# EAGLE library part IC_TPIC6B595 (library untitled)
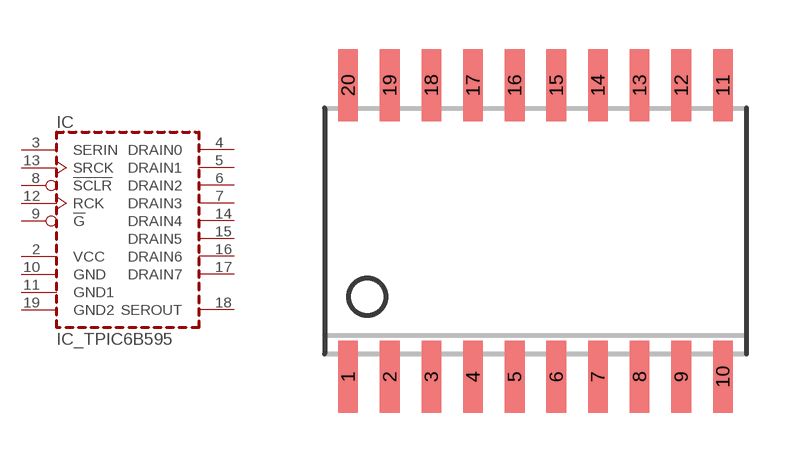
[diagram p18: symbol with the pads of SOIC-20; footprint SOIC-20]

Designator prefix IC

## IC_TPIC6B595DW  [SOIC-20]
2  VCC  pwr
3  SERIN  in
4  DRAIN0  out
5  DRAIN1  out
6  DRAIN2  out
7  DRAIN3  out
8  !SCLR  in
9  !G  in
10  GND  pwr
11  GND1  pwr
12  RCK  in
13  SRCK  in
14  DRAIN4  out
15  DRAIN5  out
16  DRAIN6  out
17  DRAIN7  out
18  SEROUT  out
19  GND2  pwr

## Footprint SOIC-20 (pad centres in mm)
smd 0.6 x 2.2: 1 -5.715,-4.445; 2 -4.445,-4.445; 3 -3.175,-4.445; 4 -1.905,-4.445; 5 -0.635,-4.445; 6 0.635,-4.445; 7 1.905,-4.445; 8 3.175,-4.445; 9 4.445,-4.445; 10 5.715,-4.445; 11 5.715,4.445; 12 4.445,4.445; 13 3.175,4.445; 14 1.905,4.445; 15 0.635,4.445; 16 -0.635,4.445; 17 -1.905,4.445; 18 -3.175,4.445; 19 -4.445,4.445; 20 -5.715,4.445